# Altium footprint library SMA.PcbLib: 2 footprints
Each footprint in its own frame and in the unit in brackets; x right, y up, seen from the top. Pads: shape width x height; smd on the part's side, far side on the other; paste and mask are expansions set on the pad; w line width, h text height; cw(c..) or ccw(c..) is an arc to the next point about the centre after c.
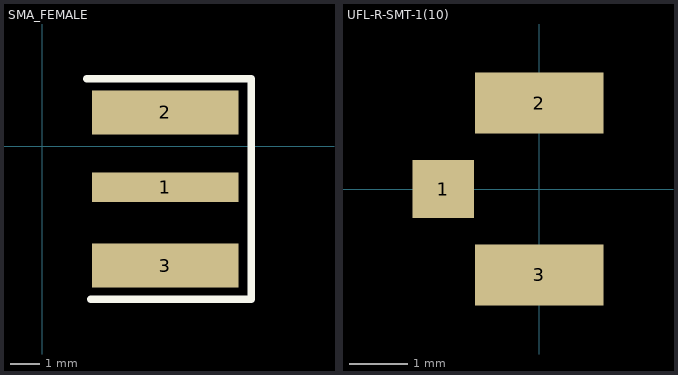
[diagram p0: the footprints below, top view; thin cyan lines are the x and y axes]

## SMA_FEMALE [mm]
pads (3):
  rect 5x1 smd: 1(4.191,-1.397)
  rect 5x1.5 all layers, no hole: 2(4.191,1.143) 3(4.191,-4.064)
Top Overlay:
  lines w0.254: 1.524,2.286 7.112,2.286 7.112,-5.207 1.651,-5.207
3D body "User Library-620-SMA-02-112-TGG SMA Female for PCB edge Mount.STEP": height 4.3, standoff -1.75, extent -8.076,-4.524 5.524,1.476

## UFL-R-SMT-1(10) [mm]
pads (3):
  rect 1.05x1 smd: 1(-1.65,0)
  rect 2.2x1.05 smd: 2(0,1.475) 3(0,-1.475)
3D body "UFL_20279-001.STEP": height 1.25, standoff -0.01, extent -1.55,-1.5 1.55,1.5